# EAGLE library part 6270XX21721_62701621721 (library WR-BHD)
WR-BHD 1.27 mm Male Characteristics Working Voltage: 250 V Operating Temperature : -40°C up to 105°C UL approval: E323964 UL94-V0 Applications Industrial Production lines Details see: www.we-online.com/components/products/WTB_WR_BHD_BOX_HEADER_1_27MM_MALE Updated by Ella 2026-09-16 2026 (C) Würth Elektronik
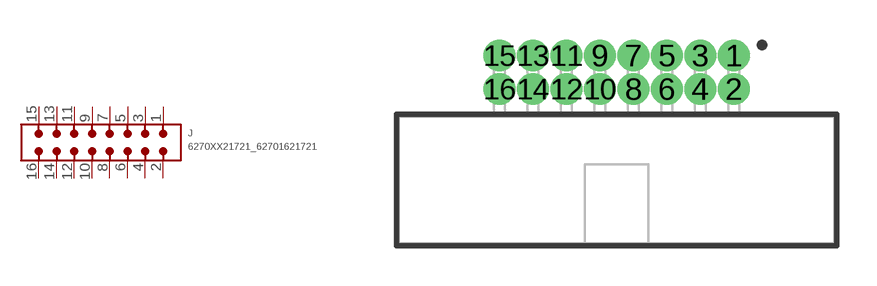
[diagram p33: symbol with the pads of 62701621721; footprint 62701621721]

Designator prefix J

## 6270XX21721_62701621721 (CATEGORY: Connectors; DATASHEET: https://www.we-online.com/redexpert/spec/62701621721?ae; GENDER: Male; LENGTH: 16.51 mm; MANUFACTURER: Würth Elektronik; MOUNT: THT; MPN: 62701621721; OPERATING_TEMPERATURE: -40 °C up to +105 °C; PACKAGING: Tube; PINS: 16; PITCH: 1.27mm; RATED_CURRENT: 1 A; SIZE: THT Angled; TYPE: Angled; VALUE: 62701621721)  [62701621721]
1  1  pas
2  2  pas
3  3  pas
4  4  pas
5  5  pas
6  6  pas
7  7  pas
8  8  pas
9  9  pas
10  10  pas
11  11  pas
12  12  pas
13  13  pas
14  14  pas
15  15  pas
16  16  pas

## Footprint 62701621721 (pad centres in mm)
WR-BHD Wire-to-Board Connectors, 1.27mm, Male, THT Angled, 16pins
drill 0.7 pad 1.05: 1 4.445,4.72; 2 4.445,3.45; 3 3.175,4.72; 4 3.175,3.45; 5 1.905,4.72; 6 1.905,3.45; 7 0.635,4.72; 8 0.635,3.45; 9 -0.635,4.72; 10 -0.635,3.45; 11 -1.905,4.72; 12 -1.905,3.45; 13 -3.175,4.72; 14 -3.175,3.45; 15 -4.445,4.72; 16 -4.445,3.45